# Altium footprint library E-01-MB_PcbLib.PcbLib: 5 footprints
Each footprint in its own frame and in the unit in brackets; x right, y up, seen from the top. Pads: shape width x height; smd on the part's side, far side on the other; paste and mask are expansions set on the pad; w line width, h text height; cw(c..) or ccw(c..) is an arc to the next point about the centre after c.
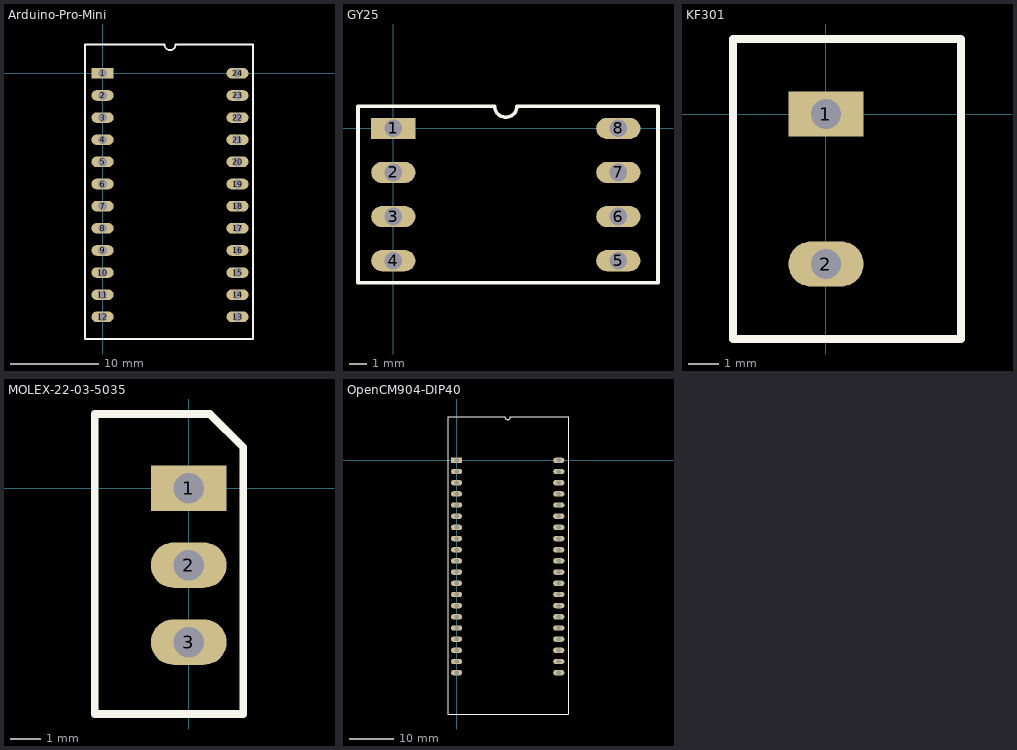
[diagram p0: the footprints below, top view; thin cyan lines are the x and y axes]

## Arduino-Pro-Mini [mm]
pads (24):
  rect 2.5x1.2 hole 1: 1(0,0)
  oval 2.5x1.2 hole 1: 2(0,-2.5) 3(0,-5) 4(0,-7.5) 5(0,-10) 6(0,-12.5) 7(0,-15) 8(0,-17.5) 9(0,-20) 10(0,-22.5) 11(0,-25) 12(0,-27.5) 13(15.24,-27.5) 14(15.24,-25) 15(15.24,-22.5) 16(15.24,-20) 17(15.24,-17.5) 18(15.24,-15) 19(15.24,-12.5) 20(15.24,-10) 21(15.24,-7.5) 22(15.24,-5) 23(15.24,-2.5) 24(15.24,0)
Top Overlay:
  lines w0.2: -2,-30 17,-30 17,3.25 8.245,3.25 cw(c7.62,3.25) 6.995,3.25 -2,3.25 -2,-30

## GY25 [mm]
pads (8):
  rect 2.5x1.2 hole 1: 1(0,0)
  oval 2.5x1.2 hole 1: 2(0,-2.5) 3(0,-5) 4(0,-7.5) 5(12.75,-7.5) 6(12.75,-5) 7(12.75,-2.5) 8(12.75,0)
Top Overlay:
  lines w0.2: -2,-8.75 15,-8.75 15,1.25 7,1.25 cw(c6.375,1.25) 5.75,1.25 -2,1.25 -2,-8.75

## KF301 [mm]
pads (2):
  rect 2.5x1.5 hole 1: 1(0,0)
  oval 2.5x1.5 hole 1: 2(0,-5)
Top Overlay:
  lines w0.254: -3.1,-7.5 3.2,-7.5 4.5,-7.5 4.5,2.5 -3.1,2.5 -3.1,-7.5

## MOLEX-22-03-5035 [mm]
pads (3):
  rect 2.5x1.5 hole 1: 1(0,0)
  oval 2.5x1.5 hole 1: 2(0,-2.54) 3(0,-5.08)
Top Overlay:
  lines w0.254: -3.1,-7.45 -3.1,2.45 0.7,2.45 1.8,1.35 1.8,-7.45 -3.1,-7.45

## OpenCM904-DIP40 [mm]
pads (40):
  rect 2.5x1.2 hole 1: 1(0,0)
  oval 2.5x1.2 hole 1: 2(0,-2.5) 3(0,-5) 4(0,-7.5) 5(0,-10) 6(0,-12.5) 7(0,-15) 8(0,-17.5) 9(0,-20) 10(0,-22.5) 11(0,-25) 12(0,-27.5) 13(0,-30) 14(0,-32.5) 15(0,-35) 16(0,-37.5) 17(0,-40) 18(0,-42.5) 19(0,-45) 20(0,-47.5) 21(22.86,-47.5) 22(22.86,-45) 23(22.86,-42.5) 24(22.86,-40) 25(22.86,-37.5) 26(22.86,-35) 27(22.86,-32.5) 28(22.86,-30) 29(22.86,-27.5) 30(22.86,-25) 31(22.86,-22.5) 32(22.86,-20) 33(22.86,-17.5) 34(22.86,-15) 35(22.86,-12.5) 36(22.86,-10) 37(22.86,-7.5) 38(22.86,-5) 39(22.86,-2.5) 40(22.86,0)
Top Overlay:
  lines w0.2: -2,-56.75 -2,9.75 10.805,9.75 ccw(c11.43,9.75) 12.055,9.75 25,9.75 25,-56.75 -2,-56.75